# EAGLE library part OPAMP(DUAL-OUT,EN) (library QuantumOptics)
OPAMP with Enable and seperate output for feedback, such as TI's ADA4817-1.
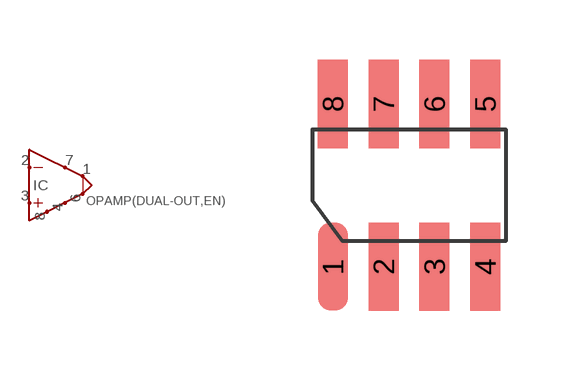
[diagram p157: symbol with the pads of SOIC-8; footprint SOIC-8]

Designator prefix IC

## OPAMP(DUAL-OUT,EN)-SOIC8  [SOIC-8]
1  FB  out
2  -IN  in
3  +IN  in
4  V-
6  OUT  out
7  V+
8  EN  in

## Footprint SOIC-8 (pad centres in mm)
SOIC-8 (AKA SO-8), pads on 0.050" grid.
smd 0.75 x 2.2: 1 -1.27,-2.032; 2 0,-2.032; 3 1.27,-2.032; 4 2.54,-2.032; 5 2.54,2.032; 6 1.27,2.032; 7 0,2.032; 8 -1.27,2.032